# EAGLE library part D5V0F4U6SO (library pepin)
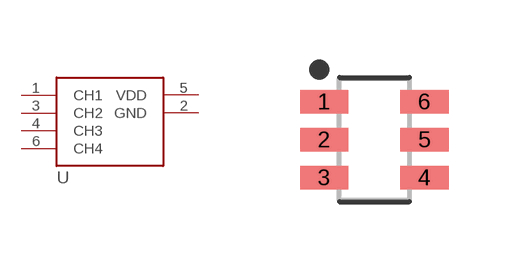
[diagram p29: symbol with the pads of SOT95P280X145-6; footprint SOT95P280X145-6]

Designator prefix U

## D5V0F4U6SO  [SOT95P280X145-6]
1  CH1
2  GND
3  CH2
4  CH3
5  VDD
6  CH4

## Footprint SOT95P280X145-6 (pad centres in mm)
6-SOT23, 0.95 mm pitch, 2.80 mm span, 2.90 X 1.60 X 1.45 mm body 6-pin SOT23 package with 0.95 mm pitch, 2.80 mm span with body size 2.90 X 1.60 X 1.45 mm
smd 1.209 x 0.584: 1 -1.253,0.95; 2 -1.253,0; 3 -1.253,-0.95; 4 1.253,-0.95; 5 1.253,0; 6 1.253,0.95